# Altium footprint library CHS.PcbLib: 19 footprints (part 1 of 2)
Each footprint in its own frame and in the unit in brackets; x right, y up, seen from the top. Pads: shape width x height; smd on the part's side, far side on the other; paste and mask are expansions set on the pad; w line width, h text height; cw(c..) or ccw(c..) is an arc to the next point about the centre after c.
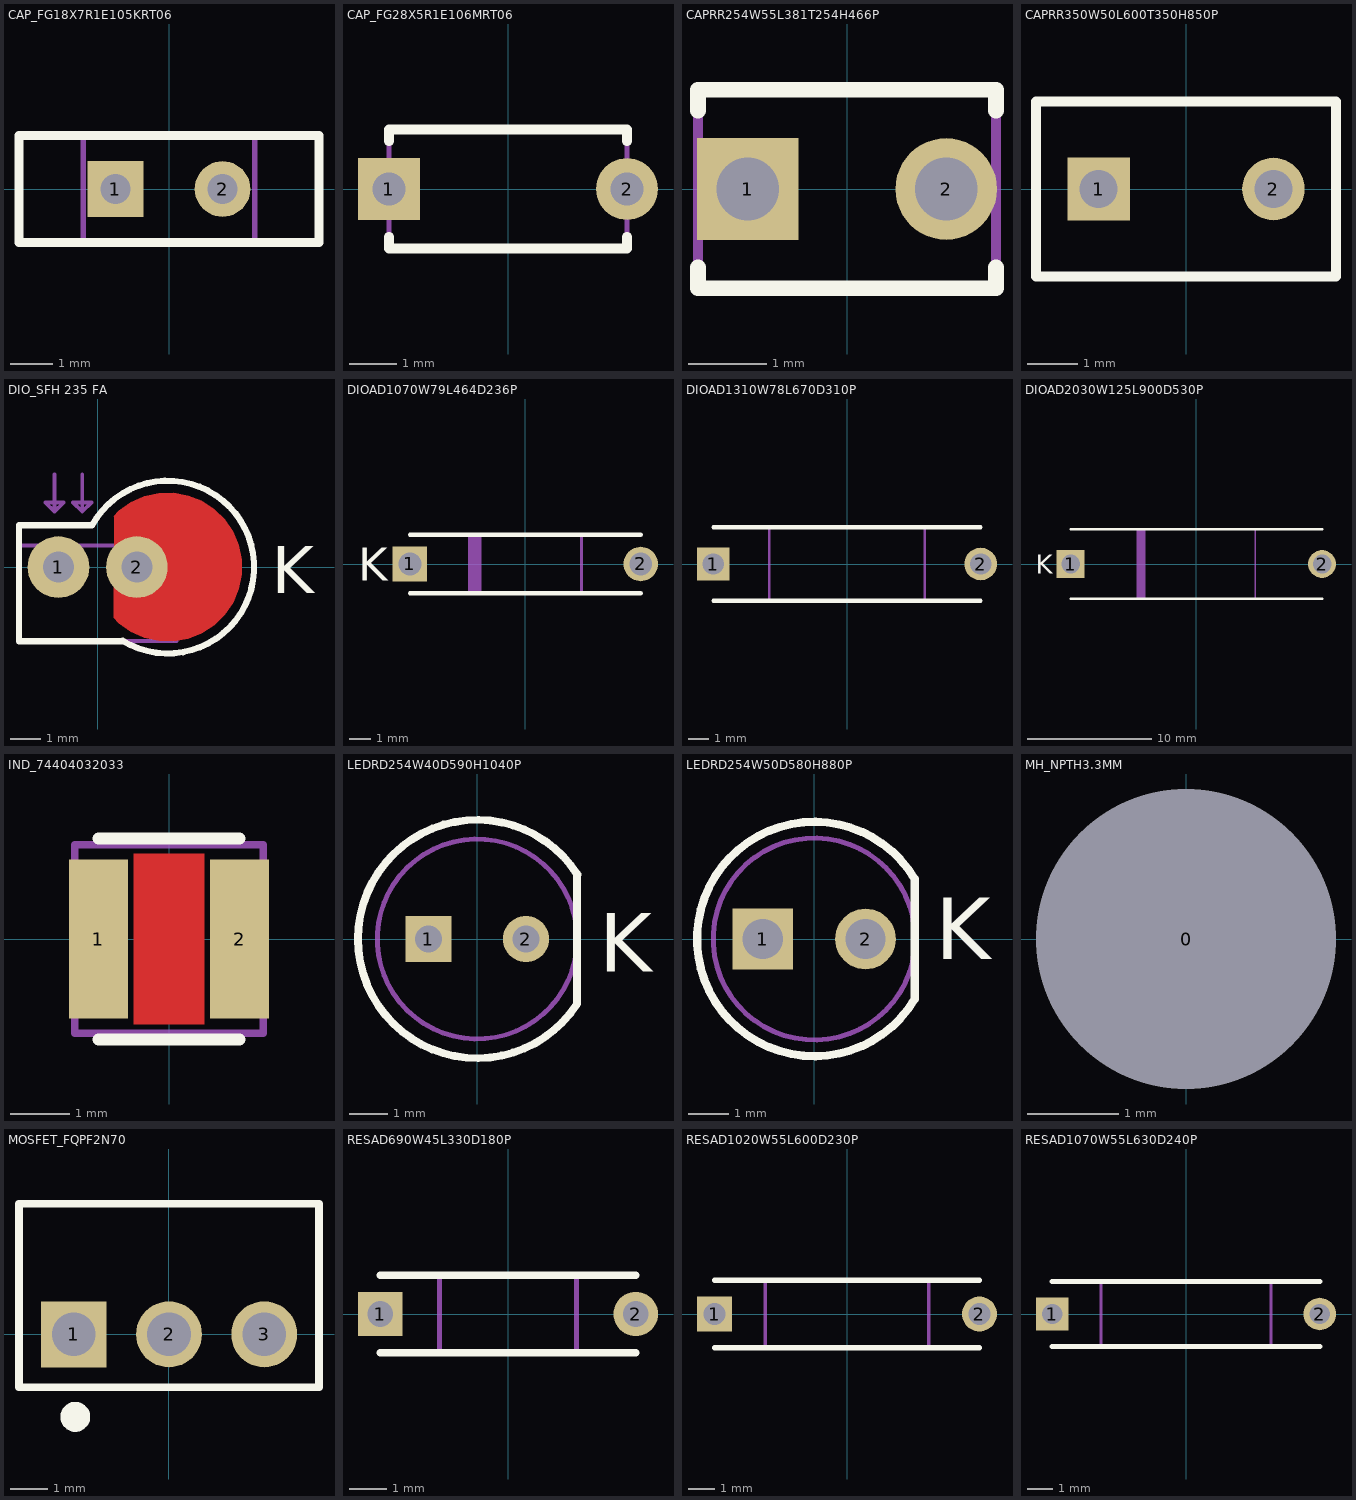
[diagram p0: the footprints below, top view; thin cyan lines are the x and y axes]

## CAP_FG18X7R1E105KRT06 [mm] "CAP CER 1UF 25V X7R RADIAL"
height 5.5
pads (2):
  rect 1.3x1.3 hole 0.7: 1(-1.25,0)
  round 1.3 hole 0.7: 2(1.25,0)
Top Overlay:
  lines w0.203: -3.5,-1.25 3.5,-1.25 3.5,1.25 -3.5,1.25 -3.5,-1.25
Mechanical 1:
  text "'.Designator'" at 0,0 h1.52
Mechanical 15:
  lines w0.127: -2,-1.25 -2,1.25 ; 2,-1.25 2,1.25 ; -3.5,-1.25 3.5,-1.25 3.5,1.25 -3.5,1.25 -3.5,-1.25
3D body: height 5.5, standoff 0, extent -3.564,-1.314 3.564,1.314

## CAP_FG28X5R1E106MRT06 [mm] "CAP CER 10UF 25V X5R RADIAL"
height 5.5
pads (2):
  rect 1.3x1.3 hole 0.7: 1(-2.5,0)
  round 1.3 hole 0.7: 2(2.5,0)
Top Overlay:
  lines w0.203: -2.5,-1 -2.5,-1.25 2.5,-1.25 2.5,-1 ; -2.5,1 -2.5,1.25 2.5,1.25 2.5,1
Mechanical 1:
  text "'.Designator'" at 0,0 h1.52
Mechanical 15:
  lines w0.107: -2.5,-1.25 -2.5,1.25 2.5,1.25 2.5,-1.25 -2.5,-1.25
3D body: height 5.5, standoff 0, extent -2.499,-1.249 2.499,1.249

## CAPRR254W55L381T254H466P [mm] "CAP CER 0.1UF 50V Z5U RADIAL"
height 4.66
pads (2):
  rect 1.3x1.3 hole 0.8: 1(-1.27,0)
  round 1.3 hole 0.8: 2(1.27,0)
Top Overlay:
  lines w0.203: -1.905,-1.005 -1.905,-1.27 1.905,-1.27 1.905,-1.005 ; -1.905,1.005 -1.905,1.27 1.905,1.27 1.905,1.005
Mechanical 1:
  text "'.Designator'" at -0.2,-0.1 h1.52
Mechanical 15:
  lines w0.127: -1.905,-1.27 -1.905,1.27 1.905,1.27 1.905,-1.27 -1.905,-1.27
3D body "C315C104M5U5TA7303.step": height 3.5, standoff -18, extent -1.91,-1.285 1.9,1.26

## CAPRR350W50L600T350H850P [mm] "CAP FILM 10000PF 5% 50VDC RADIAL"
height 8.5
pads (2):
  rect 1.25x1.25 hole 0.75: 1(-1.75,0)
  round 1.25 hole 0.75: 2(1.75,0)
Top Overlay:
  lines w0.203: -3,-1.75 3,-1.75 3,1.75 -3,1.75 -3,-1.75
Mechanical 1:
  text "'.Designator'" at 0,0 h1.52
Mechanical 15:
  lines w0.127: -3,-1.75 -3,1.75 3,1.75 3,-1.75 -3,-1.75
3D body: height 8.5, standoff 0, extent -2.999,-1.749 2.999,1.749

## DIO_SFH 235 FA [mm] "SENSOR PHOTODIODE 900NM RADIAL"
height 7.2
pads (2):
  round 2 hole 1: 1(-1.27,0) 2(1.27,0)
Top Layer:
  region: 0.523,-1.645 0.687,-1.819 1.077,-2.096 1.515,-2.291 1.982,-2.395 2.461,-2.404 2.932,-2.319 3.377,-2.143 3.779,-1.882 4.121,-1.547 4.39,-1.151 4.575,-0.709 4.67,-0.24 4.67,0.239 4.576,0.708 4.39,1.15 4.121,1.546 3.78,1.881 3.378,2.142 2.933,2.319 2.462,2.404 1.984,2.395 1.516,2.291 1.078,2.097 0.688,1.82 0.523,1.646 0.53,1.646
Top Overlay:
  lines w0.203: -0.2,1.356 -2.55,1.356 -2.55,-2.4 0.808,-2.4 ; -0.184,1.347 cw(c2.27,0) 0.813,-2.391
  text "K" at 5.65,-0.85 h1.52
Top Solder:
  region: 0.523,-1.645 0.687,-1.819 1.077,-2.096 1.515,-2.291 1.982,-2.395 2.461,-2.404 2.932,-2.319 3.377,-2.143 3.779,-1.882 4.121,-1.547 4.39,-1.151 4.575,-0.709 4.67,-0.24 4.67,0.239 4.576,0.708 4.39,1.15 4.121,1.546 3.78,1.881 3.378,2.142 2.933,2.319 2.462,2.404 1.984,2.395 1.516,2.291 1.078,2.097 0.688,1.82 0.523,1.646 0.53,1.646
Mechanical 1:
  text "'.Designator'" at -0.3,-0.3 h1.52
Mechanical 15:
  lines w0.127: -1.4,3 -1.4,1.8 ; -0.5,3 -0.5,1.8 ; -1.4,1.8 -1.4,1.8 ; -1.4,1.8 -1.7,2.1 -1.1,2.1 -1.4,1.8 ; -0.5,1.8 -0.2,2.1 -0.8,2.1 -0.5,1.8 ; -0.5,1.8 -0.5,1.8 ; -2.55,-2.4 -2.55,0.7 2.55,0.7 2.55,-2.4 -2.55,-2.4
  text "K" at 0.85,-2.15 h1.52
3D body: height 7.2, standoff 0, extent -2.549,-2.399 2.549,0.699

## DIOAD1070W79L464D236P [mm] "DIODE GEN PURP 1KV 1A DO41"
height 2.72
pads (2):
  rect 1.6x1.6 hole 1.05: 1(-5.35,0)
  round 1.6 hole 1.05: 2(5.35,0)
Top Overlay:
  lines w0.203: -5.35,-1.36 5.35,-1.36 ; -5.35,1.36 5.35,1.36
  text "K" at -7.76,-0.77 h1.52
Mechanical 1:
  text "'.Designator'" at -0.36,-0.05 h1.52
Mechanical 15:
  lines w0.127: -2.478,-1.36 -2.478,1.36 ; -2.351,-1.36 -2.351,1.36 ; -2.224,-1.36 -2.224,1.36 ; -2.097,-1.36 -2.097,1.36 ; -2.605,-1.36 2.605,-1.36 2.605,1.36 -2.605,1.36 -2.605,-1.36
3D body: height 2.72, standoff 0, extent -2.669,-1.423 2.669,1.424

## DIOAD1310W78L670D310P [mm] "TVS DIODE 5.8V 10.5V DO204AC"
height 3.6
pads (2):
  rect 1.6x1.6 hole 1.05: 1(-6.55,0)
  round 1.6 hole 1.05: 2(6.55,0)
Top Overlay:
  lines w0.203: -6.55,-1.8 6.55,-1.8 ; -6.55,1.8 6.55,1.8
Mechanical 1:
  text "'.Designator'" at 0,0 h1.52
Mechanical 15:
  lines w0.127: -3.8,-1.8 -3.8,1.8 3.8,1.8 3.8,-1.8 -3.8,-1.8
3D body: height 3.6, standoff 0, extent -3.864,-1.863 3.864,1.863

## DIOAD2030W125L900D530P [mm] "DIODE SCHOTTKY 15V 9A DO201AD"
height 5.6
pads (2):
  rect 2.25x2.25 hole 1.5: 1(-10.15,0)
  round 2.25 hole 1.5: 2(10.15,0)
Top Overlay:
  lines w0.203: -10.15,-2.8 10.15,-2.8 ; -10.15,2.8 10.15,2.8
  text "K" at -12.942,-0.768 h1.52
Mechanical 1:
  text "'.Designator'" at 0,0 h1.52
Mechanical 15:
  lines w0.127: -4.623,-2.8 -4.623,2.8 ; -4.496,-2.8 -4.496,2.8 ; -4.369,-2.8 -4.369,2.8 ; -4.242,-2.8 -4.242,2.8 ; -4.179,-2.8 -4.179,2.8 ; -4.75,-2.8 4.75,-2.8 4.75,2.8 -4.75,2.8 -4.75,-2.8
3D body: height 5.6, standoff 0, extent -4.814,-2.863 4.814,2.863

## IND_74404032033 [mm] "FIXED IND 3.3UH 1.5A 70 MOHM SMD"
height 1.5
pads (2):
  rect 1x2.7 smd: 1(-1.2,0) 2(1.2,0)
Top Layer:
  pour cut-out: -0.598,-1.452 0.598,-1.452 0.598,1.452 -0.598,1.452 -0.598,-1.452
Top Overlay:
  lines w0.203: -1.2,-1.706 1.2,-1.706 ; -1.2,1.706 1.2,1.706
Mechanical 1:
  text "'.Designator'" at -0.4,-0.1 h1.52
Mechanical 15:
  lines w0.127: -1.6,-1.6 -1.6,1.6 1.6,1.6 1.6,-1.6 -1.6,-1.6
3D body "74404032010_Download_STP_WE-LQS-3015_rev1.stp": height 1.5, standoff 0, extent -1.5,-1.5 1.5,1.5

## LEDRD254W40D590H1040P [mm] "EMITTER IR 940NM 100MA RADIAL"
height 10.4
pads (2):
  rect 1.2x1.2 hole 0.7: 1(-1.27,0)
  round 1.2 hole 0.7: 2(1.27,0)
Top Overlay:
  lines w0.203: 2.6,-1.68 2.6,1.68 ; 2.604,-1.682 cw(c0,0) 2.607,1.678
  text "K" at 3.18,-0.85 h1.52
Mechanical 1:
  text "'.Designator'" at -0.36,-0.18 h1.52
Mechanical 15:
  circle w0.127: c0,0 r2.6
  lines w0.127: 2.6,-1.68 2.6,1.68 ; 2.607,1.678 ccw(c0,0) 2.607,-1.678
  text "K" at 0.89,-0.48 h1.52
3D body: height 10.4, standoff 0, extent -3.163,-3.163 2.67,3.163

## LEDRD254W50D580H880P [mm] "LED RED CLEAR 5MM ROUND T/H"
height 10.3
pads (2):
  rect 1.5x1.5 hole 1: 1(-1.27,0)
  round 1.5 hole 1: 2(1.27,0)
Top Overlay:
  lines w0.203: 2.487,-1.492 cw(c0,0) 2.487,1.492 2.487,-1.492
  text "K" at 3,-0.5 h1.52
Mechanical 1:
  text "'.Designator'" at 0,0 h1.52
Mechanical 15:
  circle w0.127: c0,0 r2.5
  lines w0.127: 2.487,-1.492 cw(c0,0) 2.487,1.492 ; 2.5,-1.492 2.5,1.492
  text "K" at 1,-0.5 h1.52
3D body: height 10.3, standoff 0, extent -2.901,-2.913 2.487,2.913

## MH_NPTH3.3MM [mil]
pads (1):
  round 10 hole 129.92 unplated mask+64.96: 0(0,0)

## MOSFET_FQPF2N70 [mm] "MOSFET N-CH 700V 2A TO-220F"
height 19.3
pads (3):
  rect 1.76x1.76 hole 1.16: 1(-2.54,0)
  round 1.76 hole 1.16: 2(0,0) 3(2.54,0)
Top Overlay:
  circle w0.4: c-2.5,-2.2 r0.2
  lines w0.203: -4,-1.415 4,-1.415 4,3.485 -4,3.485 -4,-1.415
Mechanical 1:
  text "'.Designator'" at 0,0 h1.52
Mechanical 15:
  circle w0.127: c-2.54,0 r0.4
  lines w0.127: -4,-1.415 4,-1.415 4,3.485 -4,3.485 -4,-1.415
3D body: height 19.3, standoff 0, extent -4.063,-1.478 4.064,3.549

## RESAD690W45L330D180P [mm] "RES 0 OHM 1/6W JUMP AXIAL"
height 2.1
pads (2):
  rect 1.2x1.2 hole 0.7: 1(-3.45,0)
  round 1.2 hole 0.7: 2(3.45,0)
Top Overlay:
  lines w0.203: -3.45,-1.05 3.45,-1.05 ; -3.45,1.05 3.45,1.05
Mechanical 1:
  text "'.Designator'" at -0.1,-0.2 h1.52
Mechanical 15:
  lines w0.127: -1.85,-1.05 1.85,-1.05 1.85,1.05 -1.85,1.05 -1.85,-1.05
3D body: height 2.1, standoff 0, extent -1.849,-1.049 1.849,1.049

## RESAD1020W55L600D230P [mm] "RES 10K OHM 1/4W 5% AXIAL"
height 2.6
pads (2):
  rect 1.35x1.35 hole 0.85: 1(-5.1,0)
  round 1.35 hole 0.85: 2(5.1,0)
Top Overlay:
  lines w0.203: -5.1,-1.3 5.1,-1.3 ; -5.1,1.3 5.1,1.3
Mechanical 1:
  text "'.Designator'" at 0,-0.1 h1.52
Mechanical 15:
  lines w0.127: -3.15,-1.3 3.15,-1.3 3.15,1.3 -3.15,1.3 -3.15,-1.3
3D body: height 2.6, standoff 0, extent -3.213,-1.363 3.213,1.363

## RESAD1070W55L630D240P [mm] "RES 1/4W AXIAL"
height 2.6
pads (2):
  rect 1.3x1.3 hole 0.8: 1(-5.35,0)
  round 1.3 hole 0.8: 2(5.35,0)
Top Overlay:
  lines w0.203: -5.35,-1.3 5.35,-1.3 ; -5.35,1.3 5.35,1.3
Mechanical 1:
  text "'.Designator'" at -0.4,-0.1 h1.52
Mechanical 15:
  lines w0.127: -3.4,-1.3 -3.4,1.3 3.4,1.3 3.4,-1.3 -3.4,-1.3
3D body: height 2.6, standoff 0, extent -3.399,-1.299 3.399,1.299